# Altium footprint library Footprint_Projet_2409.PcbLib: 14 footprints
Each footprint in its own frame and in the unit in brackets; x right, y up, seen from the top. Pads: shape width x height; smd on the part's side, far side on the other; paste and mask are expansions set on the pad; w line width, h text height; cw(c..) or ccw(c..) is an arc to the next point about the centre after c.
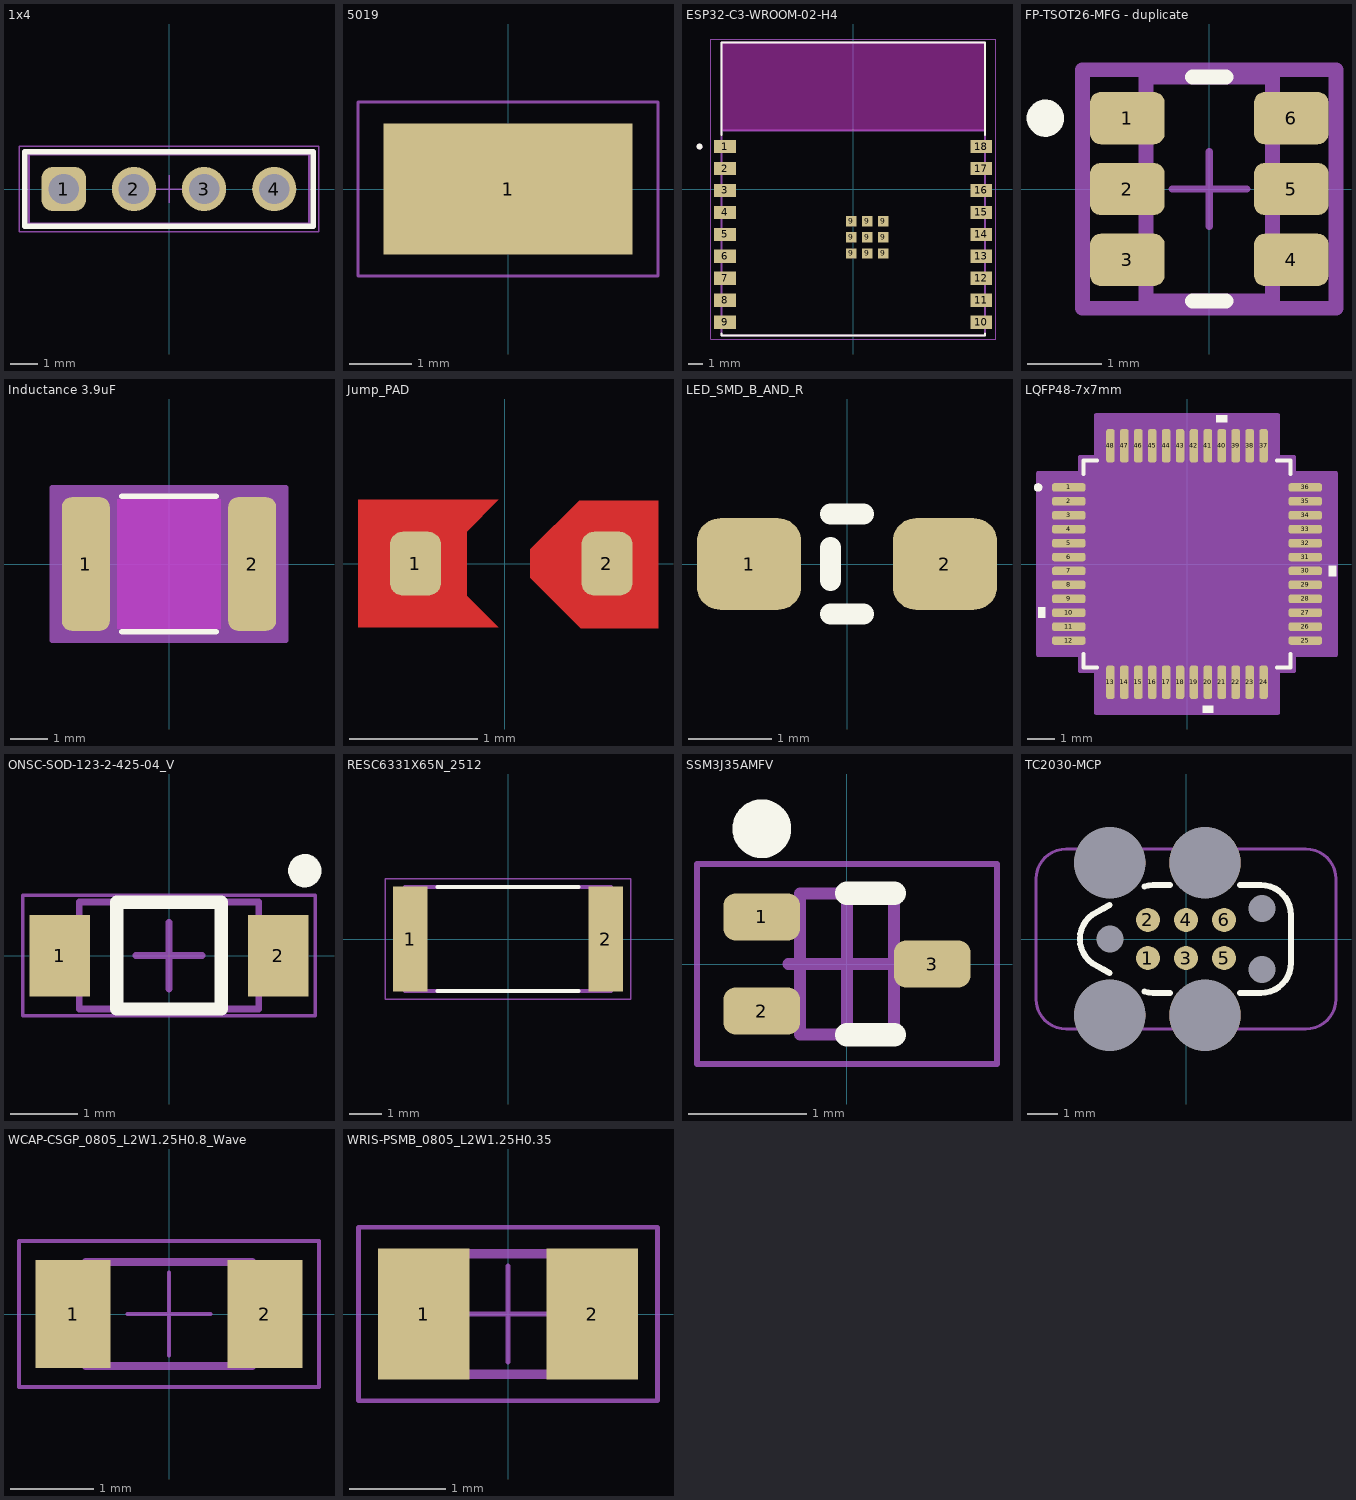
[diagram p0: the footprints below, top view; thin cyan lines are the x and y axes]

## 1x4 [mm] "Pin Header, pitch 2.54 mm, THT, Vertical, single row, 4p"
height 8.54
pads (4):
  rrect50% 1.6x1.6 hole 1.1: 1(-3.81,0)
  round 1.6 hole 1.1: 2(-1.27,0) 3(1.27,0) 4(3.81,0)
Top Overlay:
  lines w0.2: -5.23,-1.345 5.23,-1.345 5.23,1.345 -5.23,1.345 -5.23,-1.345
Top Courtyard:
  lines w0.05: -0.5,0 0.5,0 ; 0,-0.5 0,0.5 ; -5.43,-1.545 -5.43,1.545 5.43,1.545 5.43,-1.545 -5.43,-1.545
Top Designator:
  text ".Designator" at -7.498,-0.5 h1.5
Top 3D Body:
  lines w0.1: -5.08,-1.27 -5.08,1.27 5.08,1.27 5.08,-1.27 -5.08,-1.27
Top Component Outline:
  lines w0.1: -5.08,-1.27 -5.08,1.27 5.08,1.27 5.08,-1.27 -5.08,-1.27
3D body "61300411121.stp": height 8.57, standoff -2.97, extent -5.08,-1.27 5.08,1.27

## 5019 [mm]
height 2.29
pads (1):
  rect 4x2.1 smd: 1(0,0)
Mechanical 15:
  lines w0.05: -2.413,-1.397 2.413,-1.397 2.413,1.397 -2.413,1.397 -2.413,-1.397
3D body "5019.step": height 2.29, standoff 0.01, extent -1.905,-1.015 1.905,1.015

## ESP32-C3-WROOM-02-H4 [mm]
pads (27):
  rect 1.5x0.9 smd: 1(-8.75,2.9) 2(-8.75,1.4) 3(-8.75,-0.1) 4(-8.75,-1.6) 5(-8.75,-3.1) 6(-8.75,-4.6) 7(-8.75,-6.1) 8(-8.75,-7.6) 9(-8.75,-9.1) 10(8.75,-9.1) 11(8.75,-7.6) 12(8.75,-6.1) 13(8.75,-4.6) 14(8.75,-3.1) 15(8.75,-1.6) 16(8.75,-0.1) 17(8.75,1.4) 18(8.75,2.9)
  rect 0.7x0.7 smd: 9(-0.14,-4.4) 9(-0.14,-3.3) 9(-0.14,-2.2) 9(0.96,-4.4) 9(0.96,-3.3) 9(0.96,-2.2) 9(2.06,-4.4) 9(2.06,-3.3) 9(2.06,-2.2)
Top Overlay:
  circle w0.2: c-10.5,2.9 r0.1
  lines w0.127: -9,-9.87 -9,-10 9,-10 9,-9.87 ; -9,3.67 -9,10 9,10 9,3.67
Keep-Out Layer:
  region: 9,4 -9,4 -9,10 9,10
  region: 9,4 -9,4 -9,10 9,10
Mechanical 13:
  circle w0.2: c-10.5,2.9 r0.1
  lines w0.127: -9,4 9,4 ; -9,4 -9,-10 9,-10 9,4 ; -9,4 -9,10 9,10 9,4
Mechanical 15:
  lines w0.05: -9.75,-10.25 9.75,-10.25 9.75,10.25 -9.75,10.25 -9.75,-10.25
3D body "step_temp.STEP": height 3.35, standoff 0, extent -9,-10 9,10

## FP-TSOT26-MFG - duplicate [mm]
pads (6):
  rrect40% 1x0.7 smd paste+0 mask+0: 1(-1.099,0.95) 2(-1.099,0) 3(-1.099,-0.95) 4(1.099,-0.95) 5(1.099,0) 6(1.099,0.95)
Top Overlay:
  circle w0.25: c-2.2,0.95 r0.125
  lines w0.2: -0.225,-1.5 0.225,-1.5 ; -0.225,1.5 0.225,1.5
Top Courtyard:
  lines w0.2: -1.699,-1.6 -1.699,1.6 1.699,1.6 1.699,-1.6 -1.699,-1.6
Top 3D Body:
  lines w0.2: -0.85,-1.5 -0.85,1.5 0.85,1.5 0.85,-1.5 -0.85,-1.5
Top Assembly:
  lines w0.2: -1.699,-1.6 -1.699,1.6 1.699,1.6 1.699,-1.6 -1.699,-1.6
  text ".Designator" at 0,0.188 h1
Top Component Center:
  lines w0.1: -0.5,0 0.5,0 ; 0,-0.5 0,0.5
3D body "IC_Diodes_Inc_AP63205WU-7_eec.STEP": height 0.25, standoff 0, extent -1.699,-1.6 1.699,1.6

## Inductance 3.9uF [mil]
pads (2):
  rrect40% 51x142 smd paste+0 mask+0: 1(-88.5,0) 2(88.5,0)
Top Layer keep-out:
  region: -55.12,-69 -55.12,69 55.12,69 55.12,-69
Top Overlay:
  lines w6: -49.94,-72 49.94,-72 ; -49.94,72 49.94,72
Mechanical 13:
  lines w1: -92.5,-67 -92.5,67 92.5,67 92.5,-67 -92.5,-67
Mechanical 15:
  region: -102.5,-81 -124,-81 -124,81 -102.5,81 102.5,81 124,81 124,-81 102.5,-81
  lines w6: -124,-81 -102.5,-81 102.5,-81 124,-81 124,81 102.5,81 -102.5,81 -124,81 -124,-81
3D body "IND_EPCOS_B82432T_EPC.step": height 134.09, standoff -0.12, extent -92.52,-67.09 92.52,67.09

## Jump_PAD [mm]
pads (2):
  rrect50% 0.4x0.5 smd: 1(-0.7,0) 2(0.8,0)
Top Layer:
  region: -1.15,0.5 -0.05,0.5 -0.3,0.25 -0.3,-0.25 -0.05,-0.5 -1.15,-0.5
  region: 1.2,0.495 0.582,0.495 0.2,0.112 0.2,-0.112 0.593,-0.505 1.2,-0.505

## LED_SMD_B_AND_R [mm]
pads (2):
  rrect50% 1.25x1.1 smd: 1(-1.175,0) 2(1.175,0)
Top Overlay:
  lines w0.254: -0.2,-0.6 0.2,-0.6 ; -0.2,-0.2 -0.2,0.2 ; -0.2,0.6 0.2,0.6
3D body: height 0.75, standoff 0, extent -1,-0.6 1,0.6

## LQFP48-7x7mm [mm]
pads (48):
  rrect50% 1.194x0.305 smd paste+0 mask+0: 1(-4.25,2.75) 2(-4.25,2.25) 3(-4.25,1.75) 4(-4.25,1.25) 5(-4.25,0.75) 6(-4.25,0.25) 7(-4.25,-0.25) 8(-4.25,-0.75) 9(-4.25,-1.25) 10(-4.25,-1.75) 11(-4.25,-2.25) 12(-4.25,-2.75) 25(4.25,-2.75) 26(4.25,-2.25) 27(4.25,-1.75) 28(4.25,-1.25) 29(4.25,-0.75) 30(4.25,-0.25) 31(4.25,0.25) 32(4.25,0.75) 33(4.25,1.25) 34(4.25,1.75) 35(4.25,2.25) 36(4.25,2.75)
  rrect50% 0.305x1.194 smd paste+0 mask+0: 13(-2.75,-4.25) 14(-2.25,-4.25) 15(-1.75,-4.25) 16(-1.25,-4.25) 17(-0.75,-4.25) 18(-0.25,-4.25) 19(0.25,-4.25) 20(0.75,-4.25) 21(1.25,-4.25) 22(1.75,-4.25) 23(2.25,-4.25) 24(2.75,-4.25) 37(2.75,4.25) 38(2.25,4.25) 39(1.75,4.25) 40(1.25,4.25) 41(0.75,4.25) 42(0.25,4.25) 43(-0.25,4.25) 44(-0.75,4.25) 45(-1.25,4.25) 46(-1.75,4.25) 47(-2.25,4.25) 48(-2.75,4.25)
Top Overlay:
  circle w0.152: c-5.351,2.75 r0.076
  region: 1.441,5.101 1.06,5.101 1.06,5.355 1.441,5.355
  region: 5.101,-0.059 5.355,-0.059 5.355,-0.44 5.101,-0.44
  region: 0.941,-5.101 0.56,-5.101 0.56,-5.355 0.941,-5.355
  region: -5.101,-1.559 -5.355,-1.559 -5.355,-1.94 -5.101,-1.94
  lines w0.152: -3.721,-3.235 -3.721,-3.721 -3.235,-3.721 ; -3.721,3.235 -3.721,3.721 -3.235,3.721 ; 3.235,-3.721 3.721,-3.721 3.721,-3.235 ; 3.235,3.721 3.721,3.721 3.721,3.235
Mechanical 13:
  circle w0: c-3.018,2.75 r0.076
  lines w0.025: -3.594,2.324 -2.324,3.594 ; -3.594,-3.594 -3.594,3.594 3.594,3.594 3.594,-3.594 -3.594,-3.594
Mechanical 15:
  region: -3.258,-3.848 -3.848,-3.848 -3.848,-3.258 -5.355,-3.258 -5.355,3.258 -3.848,3.258 -3.848,3.848 -3.258,3.848 -3.258,5.355 3.258,5.355 3.258,3.848 3.848,3.848 3.848,3.258 5.355,3.258 5.355,-3.258 3.848,-3.258 3.848,-3.848 3.258,-3.848 3.258,-5.355 -3.258,-5.355
  lines w0.152: -5.355,-3.258 -5.355,3.258 -3.848,3.258 -3.848,3.848 -3.258,3.848 -3.258,5.355 3.258,5.355 3.258,3.848 3.848,3.848 3.848,3.258 5.355,3.258 5.355,-3.258 3.848,-3.258 3.848,-3.848 3.258,-3.848 3.258,-5.355 -3.258,-5.355 -3.258,-3.848 -3.848,-3.848 -3.848,-3.258 -5.355,-3.258
3D body "LQFP48-7x7mm.step": height 1.6, standoff 0, extent -4.497,-4.497 4.497,4.497

## ONSC-SOD-123-2-425-04_V [mm] "SOD, 2-Leads, Body 2.69x1.6mm"
height 1.35
pads (2):
  rect 0.91x1.22 smd: 1(-1.635,0) 2(1.635,0)
Top Overlay:
  circle w0.25: c2.032,1.27 r0.125
  lines w0.2: -0.78,-0.8 0.78,-0.8 0.78,0.8 -0.78,0.8 -0.78,-0.8
Mechanical 13:
  lines w0.1: -1.345,-0.8 1.345,-0.8 1.345,0.8 -1.345,0.8 -1.345,-0.8
Mechanical 15:
  lines w0.05: -2.19,-0.9 2.19,-0.9 2.19,0.9 -2.19,0.9 -2.19,-0.9
  lines w0.1: -0.5,0 0.5,0 ; 0,-0.5 0,0.5
3D body: height 1.35, standoff 0, extent -1.345,-0.8 1.345,0.8

## RESC6331X65N_2512 [mm]
pads (2):
  rect 1.07x3.27 smd: 1(-3.055,0) 2(3.055,0)
Top Overlay:
  lines w0.127: -2.2,-1.63 2.2,-1.63 ; -2.2,1.63 2.2,1.63
Mechanical 13:
  lines w0.127: -3.22,-1.63 -3.22,1.63 3.22,1.63 3.22,-1.63 -3.22,-1.63
Mechanical 15:
  lines w0.05: -3.84,-1.885 -3.84,1.885 3.84,1.885 3.84,-1.885 -3.84,-1.885
3D body "AC2512FK-073RL.step": height 0.65, standoff 0, extent -3.302,-1.55 3.048,1.55

## SSM3J35AMFV [mm] "SOT23, 3-Leads, Body 1,20x1,20mm, Pitch 0,40mm, IPC Medium Density"
height 0.5
pads (3):
  rrect50% 0.65x0.4 smd: 1(-0.725,0.4) 2(-0.725,-0.4) 3(0.725,0)
Top Overlay:
  circle w0.25: c-0.725,1.15 r0.125
  lines w0.2: 0,-0.6 0.4,-0.6 ; 0,0.6 0.4,0.6
Top Courtyard:
  lines w0.05: -1.275,-0.85 -1.275,0.85 1.275,0.85 1.275,-0.85 -1.275,-0.85
  lines w0.1: -0.5,0 0.5,0 ; 0,-0.5 0,0.5
Top Assembly:
  lines w0.1: -0.4,-0.6 -0.4,0.6 0.4,0.6 0.4,-0.6 -0.4,-0.6
3D body: height 0.5, standoff 0.05, extent -0.4,-0.6 0.4,0.6

## TC2030-MCP [mm] "Conector ICD en placa"
height 8
pads (13):
  round 0.8 smd paste-0.4: 1(-1.27,-0.635) 2(-1.27,0.635) 3(0,-0.635) 4(0,0.635) 5(1.27,-0.635) 6(1.27,0.635)
  round 2.375 hole 2.375 unplated mask+0: ""(-2.54,-2.54) ""(-2.54,2.54) ""(0.635,-2.54) ""(0.635,2.54)
  round 0.85 hole 0.9 unplated mask+0: ""(-2.54,0) ""(2.54,-1.016) ""(2.54,1.016)
Top Overlay:
  lines w0.2: -2.556,-1.128 -2.741,-1.024 -3.111,-0.816 cw(c-2.544,0) -3.111,0.816 -2.741,1.024 -2.556,1.128 ; -1.387,-1.758 ccw(c-1.1,-0.8) -1.1,-1.8 -0.54,-1.8 ; -1.387,1.758 cw(c-1.1,0.8) -1.1,1.8 -0.54,1.8 ; 1.8,-1.8 2.5,-1.8 ccw(c2.5,-0.8) 3.5,-0.8 3.5,0.8 ccw(c2.5,0.8) 2.5,1.8 1.8,1.8
Mechanical 15:
  lines w0.1: -5,-2 ccw(c-4,-2) -4,-3 4,-3 ccw(c4,-2) 5,-2 5,2 ccw(c4,2) 4,3 -4,3 ccw(c-4,2) -5,2 -5,-2
3D body: height 0, standoff 0, extent -3.539,-1.801 3.501,1.801

## WCAP-CSGP_0805_L2W1.25H0.8_Wave [mm] "Ceramic Capacitors, body 2x1.25mm"
height 0.9
pads (2):
  rect 0.9x1.3 smd: 1(-1.15,0) 2(1.15,0)
Top Courtyard:
  lines w0.05: -1.8,-0.875 -1.8,0.875 1.8,0.875 1.8,-0.875 -1.8,-0.875
Top Designator:
  text ".Designator" at -3.499,-0.233 h0.7
Top Component Outline:
  lines w0.1: -1,-0.625 -1,0.625 1,0.625 1,-0.625 -1,-0.625
Top Component Center:
  lines w0.05: -0.5,0 0.5,0 ; 0,-0.5 0,0.5
3D body "CAPC2012X08N.step": height 0.8, standoff 0, extent -1,-0.625 1,0.625

## WRIS-PSMB_0805_L2W1.25H0.35 [mm] "Metal Plate Resistor, SMT, body size 2x1.25mm"
height 0.35
pads (2):
  rect 0.95x1.36 smd: 1(-0.875,0) 2(0.875,0)
Top Courtyard:
  lines w0.05: -0.5,0 0.5,0 ; 0,-0.5 0,0.5 ; -1.55,-0.9 1.55,-0.9 1.55,0.9 -1.55,0.9 -1.55,-0.9
Top Designator:
  text ".Designator" at -2.499,-0.167 h0.5
Top Component Outline:
  lines w0.1: -1,-0.625 1,-0.625 1,0.625 -1,0.625 -1,-0.625
3D body "WRIS-PSMB_0805.stp": height 0.35, standoff 0, extent -1,-0.625 1,0.625